# EAGLE library part NCN5150MNTWG (library Driver_Transceiver ICs)
IC TRANSCEIVER HALF 1/1 20QFN Manufacturer's datasheet <https://www.onsemi.com/pub/Collateral/NCN5150-D.PDF>
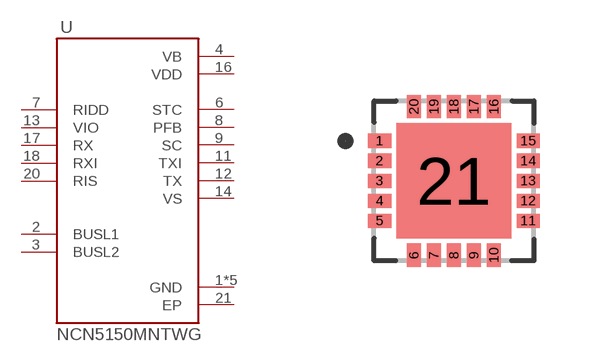
[diagram p4: symbol with the pads of QFN-20; footprint QFN-20]

Designator prefix U

## NCN5150MNTWG (CREATED_BY: PCBLayout.com; DIGIKEY_PARTNO: NCN5150MNTWGOSCT-ND; MANUFACTRURER: ON Semiconductor; MPN: MC10EP89DTG; PACKAGE: QFN-20)  [QFN-20]
1  GND  pwr
2  BUSL1
3  BUSL2
4  VB  pwr
5  GND  pwr
6  STC  out
7  RIDD  in
8  PFB  out
9  SC  out
10  GND  pwr
11  TXI  out
12  TX  out
13  VIO  in
14  VS  out
15  GND  pwr
16  VDD  pwr
17  RX  in
18  RXI  in
19  GND  pwr
20  RIS  in
21  EP  pwr

## Footprint QFN-20 (pad centres in mm)
smd 0.58 x 0.35: 1 -1.86,1; 2 -1.86,0.5; 3 -1.86,0; 4 -1.86,-0.5; 5 -1.86,-1; 11 1.86,-1; 12 1.86,-0.5; 13 1.86,0; 14 1.86,0.5; 15 1.86,1
smd 0.35 x 0.58: 6 -1,-1.86; 7 -0.5,-1.86; 8 0,-1.86; 9 0.5,-1.86; 10 1,-1.86; 16 1,1.86; 17 0.5,1.86; 18 0,1.86; 19 -0.5,1.86; 20 -1,1.86
smd 2.88 x 2.88: 21 0,0